# Altium integrated library Analog Devices Operational Amplifiers.IntLib: 2102 symbols (part 1 of 70)
Pins are listed as number, name and electrical type; pins without a type are passive.

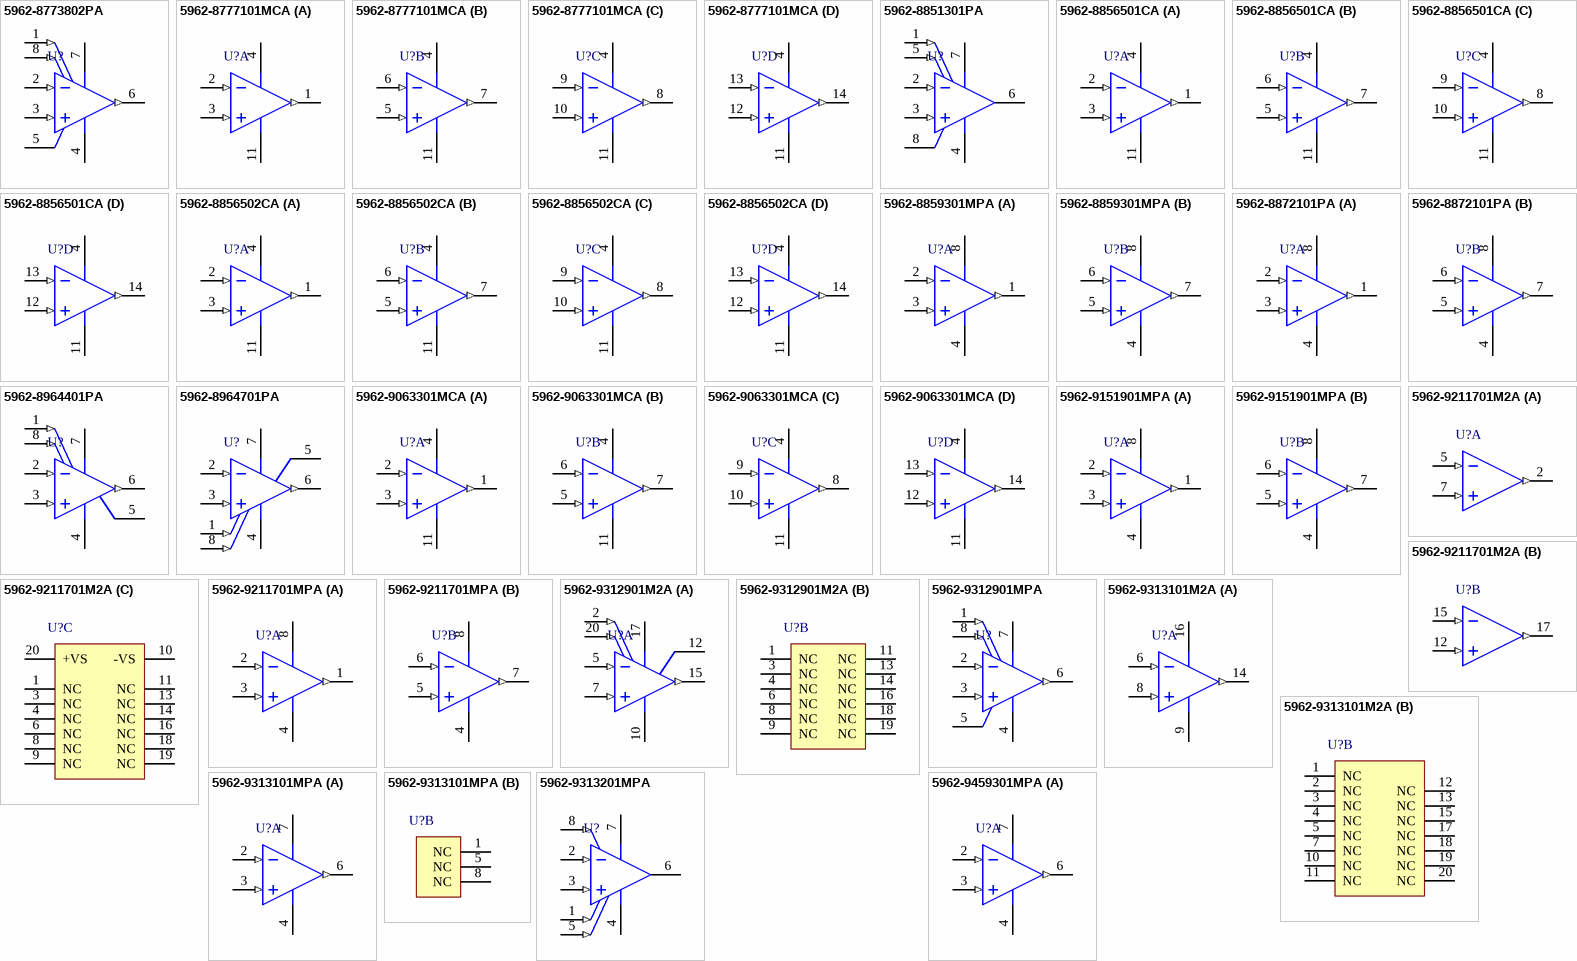
[diagram p0: symbols 5962-8773802PA to 5962-9459301MPA]

## 5962-8773802PA
designator U?
Single Channel Ultra High Gain Operational Amplifier, 600 KHz BW, 300 mV/us SR, Military, 8-pin DIP (Q-8), Tube; Generic Part Number: OP77; Manufacturer: Analog Devices; PartNumber: 5962-8773802PA; Amplifiers Per Package: 1; Input Bias Current: 1.2nA; Input Offset Voltage: 10uV; Iq/Amp: 2mA; Small Signal Bandwidth: 600KHz; V Span Max: 44V; V Span Min: 6V; DatasheetVersion: Rev. E; PackageReference: Q-8; PackageDescription: 8-Pin Ceramic Dual In-Line Package, Row spacing 7.62 mm, Pitch 2.54 mm; Supplier 1: Digi-Key; Supplier Part Number 1: 5962-8773802PA-ND; Packing: Tube; Slew Rate: 300mV/us; Mounting Technology: Through Hole; ComponentLink1Description: Manufacturer URL; ComponentLink1URL: http://www.analog.com/en/index.html; ComponentLink2Description: Datasheet; ComponentLink2URL: http://www.analog.com/static/imported-files/data_sheets/OP77.pdf; ComponentLink3Description: Package Specification; ComponentLink3URL: http://www.analog.com/static/imported-files/packages/3925655241313314758Q_8.pdf
footprint ADI-Q-8 (DIP, 8-Leads, Body 10.29x6.73mm, Pitch 2.54mm)
pins: 1 VOS TRIM (in), 2 -IN (in), 3 +IN (in), 4 V- (power), 5 NC, 6 OUT (out), 7 V+ (power), 8 VOS TRIM (in)

## 5962-8777101MCA
designator U?
Quad Channel Low Supply Current Operational Amplifier, 500 KHz BW, 150 mV/us SR, Industrial, 14-pin DIP (Q-14), Tube; Generic Part Number: OP400; Manufacturer: Analog Devices; PartNumber: 5962-8777101MCA; Amplifiers Per Package: 4; Input Bias Current: 750pA; Input Offset Voltage: 80uV; Iq/Amp: 725uA; Small Signal Bandwidth: 500KHz; V Span Max: 40V; V Span Min: 6V; DatasheetVersion: Rev. G; PackageReference: Q-14; PackageDescription: 14-Pin Ceramic Dual In-Line Package, Row spacing 7.62 mm, Pitch 2.54 mm; Supplier 1: Digi-Key; Supplier Part Number 1: 5962-8777101MCA-ND; Supplier 2: Newark; Supplier Part Number 2: 90T1010; Supplier 3: Newark; Supplier Part Number 3: 09B4667; Packing: Tube; Slew Rate: 150mV/us; Mounting Technology: Through Hole; ComponentLink1Description: Manufacturer URL; ComponentLink1URL: http://www.analog.com/en/index.html; ComponentLink2Description: Datasheet; ComponentLink2URL: http://www.analog.com/static/imported-files/data_sheets/OP400.pdf; ComponentLink3Description: Package Specification; ComponentLink3URL: http://www.analog.com/static/imported-files/packages/393665681442905251546090Q_14.pdf
footprint ADI-Q-14 (DIP, 14-Leads, Body 19.94x6.73mm, Pitch 2.54mm)
pins on every part: 4 +V (power), 11 -V (power)
part A pins: 1 OUT A (out), 2 -IN A (in), 3 +IN A (in)
part B pins: 5 +IN B (in), 6 -IN B (in), 7 OUT B (out)
part C pins: 8 OUT C (out), 9 -IN C (in), 10 +IN C (in)
part D pins: 12 +IN D (in), 13 -IN D (in), 14 OUT D (out)

## 5962-8851301PA
designator U?
Single Channel Fast Slew Rate Operational Amplifier, 10 MHz BW, 50 V/us SR, Industrial, 8-pin DIP (Q-8), Tube; Generic Part Number: OP42; Manufacturer: Analog Devices; PartNumber: 5962-8851301PA; Amplifiers Per Package: 1; Input Bias Current: 130pA; Input Offset Voltage: 1.5mV; Iq/Amp: 6.5mA; Slew Rate: 50V/us; Small Signal Bandwidth: 10MHz; V Span Max: 40V; V Span Min: 16V; DatasheetVersion: Rev. A; PackageReference: Q-8; PackageDescription: 8-Pin Ceramic Dual In-Line Package, Row spacing 7.62 mm, Pitch 2.54 mm; Supplier 1: Digi-Key; Supplier Part Number 1: 5962-8851301PA-ND; Packing: Tube; Mounting Technology: Through Hole; ComponentLink1Description: Manufacturer URL; ComponentLink1URL: http://www.analog.com/en/index.html; ComponentLink2Description: Datasheet; ComponentLink2URL: http://www.analog.com/static/imported-files/data_sheets/OP42.pdf; ComponentLink3Description: Package Specification; ComponentLink3URL: http://www.analog.com/static/imported-files/packages/3925655241313314758Q_8.pdf
footprint ADI-Q-8 (DIP, 8-Leads, Body 10.29x6.73mm, Pitch 2.54mm)
pins: 1 NULL (in), 2 -IN (in), 3 +IN (in), 4 -V (power), 5 NULL (in), 6 OUT (hiz), 7 +V (power), 8 NC

## 5962-8856501CA
designator U?
Quad Channel Low Offset Voltage Drift Operational Amplifier, 6 MHz BW, 2 V/us SR, Industrial, 14-pin DIP (Q-14), Tube; Generic Part Number: OP470; Manufacturer: Analog Devices; PartNumber: 5962-8856501CA; Amplifiers Per Package: 4; Input Bias Current: 25nA; Input Offset Voltage: 400uV; Iq/Amp: 2.75mA; Slew Rate: 2V/us; Small Signal Bandwidth: 6MHz; V Span Max: 36V; V Span Min: 9V; DatasheetVersion: Rev. B; PackageReference: Q-14; PackageDescription: 14-Pin Ceramic Dual In-Line Package, Row spacing 7.62 mm, Pitch 2.54 mm; Supplier 1: Digi-Key; Supplier Part Number 1: 5962-8856501CA-ND; Packing: Tube; Mounting Technology: Through Hole; ComponentLink1Description: Manufacturer URL; ComponentLink1URL: http://www.analog.com/en/index.html; ComponentLink2Description: Datasheet; ComponentLink2URL: http://www.analog.com/static/imported-files/data_sheets/OP470.pdf; ComponentLink3Description: Package Specification; ComponentLink3URL: http://www.analog.com/static/imported-files/packages/393665681442905251546090Q_14.pdf
footprint ADI-Q-14 (DIP, 14-Leads, Body 19.94x6.73mm, Pitch 2.54mm)
pins on every part: 4 +V (power), 11 -V (power)
part A pins: 1 OUT A (out), 2 -IN A (in), 3 +IN A (in)
part B pins: 5 +IN B (in), 6 -IN B (in), 7 OUT B (out)
part C pins: 8 OUT C (out), 9 -IN C (in), 10 +IN C (in)
part D pins: 12 +IN D (in), 13 -IN D (in), 14 OUT D (out)

## 5962-8856502CA
designator U?
Quad Channel Low Offset Voltage Drift Operational Amplifier, 6.5 MHz BW, 8 V/us SR, Military, 14-pin DIP (Q-14), Tube; Generic Part Number: OP471; Manufacturer: Analog Devices; PartNumber: 5962-8856502CA; Amplifiers Per Package: 4; Input Bias Current: 25nA; Input Offset Voltage: 1mV; Iq/Amp: 2.75mA; Slew Rate: 8V/us; Small Signal Bandwidth: 6.5MHz; V Span Max: 36V; V Span Min: 9V; DatasheetVersion: Rev. A; PackageReference: Q-14; PackageDescription: 14-Pin Ceramic Dual In-Line Package, Row spacing 7.62 mm, Pitch 2.54 mm; Supplier 1: Digi-Key; Supplier Part Number 1: 5962-8856502CA-ND; Packing: Tube; Mounting Technology: Through Hole; ComponentLink1Description: Manufacturer URL; ComponentLink1URL: http://www.analog.com/en/index.html; ComponentLink2Description: Datasheet; ComponentLink2URL: http://www.analog.com/static/imported-files/data_sheets/OP471.pdf; ComponentLink3Description: Package Specification; ComponentLink3URL: http://www.analog.com/static/imported-files/packages/393665681442905251546090Q_14.pdf
footprint ADI-Q-14 (DIP, 14-Leads, Body 19.94x6.73mm, Pitch 2.54mm)
pins on every part: 4 +V (power), 11 -V (power)
part A pins: 1 OUT A (out), 2 -IN A (in), 3 +IN A (in)
part B pins: 5 +IN B (in), 6 -IN B (in), 7 OUT B (out)
part C pins: 8 OUT C (out), 9 -IN C (in), 10 +IN C (in)
part D pins: 12 +IN D (in), 13 -IN D (in), 14 OUT D (out)

## 5962-8859301MPA
designator U?
Double Channel Low Supply Current Operational Amplifier, 500 KHz BW, 150 mV/us SR, Military, 8-pin DIP (Q-8), Tube; Generic Part Number: OP200; Manufacturer: Analog Devices; PartNumber: 5962-8859301MPA; Amplifiers Per Package: 2; Input Bias Current: 100pA; Input Offset Voltage: 80uV; Iq/Amp: 775uA; Small Signal Bandwidth: 500KHz; V Span Max: 40V; V Span Min: 6V; DatasheetVersion: Rev. E; PackageReference: Q-8; PackageDescription: 8-Pin Ceramic Dual In-Line Package, Row spacing 7.62 mm, Pitch 2.54 mm; Supplier 1: Digi-Key; Supplier Part Number 1: 5962-8859301MPA-ND; Packing: Tube; Slew Rate: 150mV/us; Mounting Technology: Through Hole; ComponentLink1Description: Manufacturer URL; ComponentLink1URL: http://www.analog.com/en/index.html; ComponentLink2Description: Datasheet; ComponentLink2URL: http://www.analog.com/static/imported-files/data_sheets/OP200.pdf; ComponentLink3Description: Package Specification; ComponentLink3URL: http://www.analog.com/static/imported-files/packages/3925655241313314758Q_8.pdf
footprint ADI-Q-8 (DIP, 8-Leads, Body 10.29x6.73mm, Pitch 2.54mm)
pins on every part: 4 -V (power), 8 +V (power)
part A pins: 1 OUT A (out), 2 -IN A (in), 3 +IN A (in)
part B pins: 5 +IN B (in), 6 -IN B (in), 7 OUT B (out)

## 5962-8872101PA
designator U?
Double Channel Very Low Noise Operational Amplifier, 5 MHz BW, 2.4 V/us SR, Military, 8-pin DIP (Q-8), Tube; Generic Part Number: OP270; Manufacturer: Analog Devices; PartNumber: 5962-8872101PA; Amplifiers Per Package: 2; Input Bias Current: 15nA; Input Offset Voltage: 50uV; Iq/Amp: 3.25mA; Small Signal Bandwidth: 5MHz; V Span Max: 36V; V Span Min: 9V; DatasheetVersion: Rev. E; PackageReference: Q-8; PackageDescription: 8-Pin Ceramic Dual In-Line Package, Row spacing 7.62 mm, Pitch 2.54 mm; Supplier 1: Digi-Key; Supplier Part Number 1: 5962-8872101PA-ND; Packing: Tube; Slew Rate: 2.4V/us; Mounting Technology: Through Hole; ComponentLink1Description: Manufacturer URL; ComponentLink1URL: http://www.analog.com/en/index.html; ComponentLink2Description: Datasheet; ComponentLink2URL: http://www.analog.com/static/imported-files/data_sheets/OP270.pdf; ComponentLink3Description: Package Specification; ComponentLink3URL: http://www.analog.com/static/imported-files/packages/3925655241313314758Q_8.pdf
footprint ADI-Q-8 (DIP, 8-Leads, Body 10.29x6.73mm, Pitch 2.54mm)
pins on every part: 4 -V (power), 8 +V (power)
part A pins: 1 OUT A (out), 2 -IN A (in), 3 +IN A (in)
part B pins: 5 +IN B (in), 6 -IN B (in), 7 OUT B (out)

## 5962-8964401PA
designator U?
Single Channel Wide Bandwidth Operational Amplifier, 60 MHz BW, 2 KV/us SR, Military, 8-pin DIP (Q-8), Tube; Generic Part Number: AD844; Manufacturer: Analog Devices; PartNumber: 5962-8964401PA; Amplifiers Per Package: 1; Input Bias Current: 150nA; Input Offset Voltage: 50uV; Iq/Amp: 6.5mA; Slew Rate: 2KV/us; Small Signal Bandwidth: 60MHz; V Span Max: 36V; V Span Min: 9V; DatasheetVersion: Rev. F; PackageReference: Q-8; PackageDescription: 8-Pin Ceramic Dual In-Line Package, Row spacing 7.62 mm, Pitch 2.54 mm; Supplier 1: Digi-Key; Supplier Part Number 1: 5962-8964401PA-ND; Packing: Tube; Mounting Technology: Through Hole; ComponentLink1Description: Manufacturer URL; ComponentLink1URL: http://www.analog.com/en/index.html; ComponentLink2Description: Datasheet; ComponentLink2URL: http://www.analog.com/static/imported-files/data_sheets/AD844.pdf; ComponentLink3Description: Package Specification; ComponentLink3URL: http://www.analog.com/static/imported-files/packages/3925655241313314758Q_8.pdf
footprint ADI-Q-8 (DIP, 8-Leads, Body 10.29x6.73mm, Pitch 2.54mm)
pins: 1 NULL (in), 2 -IN (in), 3 +IN (in), 4 -VS (power), 5 TZ, 6 OUT (out), 7 +VS (power), 8 NULL (in)

## 5962-8964701PA
designator U?
Single Channel Superior Performance, High Unity Gain Operational Amplifier, 50 MHz BW, 300 V/us SR, Military, 8-pin DIP (Q-8), Tube; Generic Part Number: AD847; Manufacturer: Analog Devices; PartNumber: 5962-8964701PA; Amplifiers Per Package: 1; Input Bias Current: 3.3uA; Input Offset Voltage: 500uV; Iq/Amp: 4.8mA; Small Signal Bandwidth: 50MHz; V Span Max: 36V; V Span Min: 9V; DatasheetVersion: Rev. F; PackageReference: Q-8; PackageDescription: 8-Pin Ceramic Dual In-Line Package, Row spacing 7.62 mm, Pitch 2.54 mm; Supplier 1: Digi-Key; Supplier Part Number 1: 5962-8964701PA-ND; Packing: Tube; Slew Rate: 300V/us; Mounting Technology: Through Hole; ComponentLink1Description: Manufacturer URL; ComponentLink1URL: http://www.analog.com/en/index.html; ComponentLink2Description: Datasheet; ComponentLink2URL: http://www.analog.com/static/imported-files/data_sheets/AD847.pdf; ComponentLink3Description: Package Specification; ComponentLink3URL: http://www.analog.com/static/imported-files/packages/3925655241313314758Q_8.pdf
footprint ADI-Q-8 (DIP, 8-Leads, Body 10.29x6.73mm, Pitch 2.54mm)
pins: 1 NULL (in), 2 -IN (in), 3 +IN (in), 4 -VS (power), 5 NC, 6 OUT (out), 7 +VS (power), 8 NULL (in)

## 5962-9063301MCA
designator U?
Quad Channel Operational Amplifier, 4 MHz BW, 20 V/us SR, Military, 14-pin DIP (Q-14), Tube; Generic Part Number: AD713; Manufacturer: Analog Devices; PartNumber: 5962-9063301MCA; Amplifiers Per Package: 4; Input Bias Current: 40pA; Input Offset Voltage: 300uV; Iq/Amp: 10mA; Slew Rate: 20V/us; Small Signal Bandwidth: 4MHz; V Span Max: 36V; V Span Min: 9V; DatasheetVersion: Rev. F; PackageReference: Q-14; PackageDescription: 14-Pin Ceramic Dual In-Line Package, Row spacing 7.62 mm, Pitch 2.54 mm; Supplier 1: Digi-Key; Supplier Part Number 1: 5962-9063301MCA-ND; Packing: Tube; Mounting Technology: Through Hole; ComponentLink1Description: Manufacturer URL; ComponentLink1URL: http://www.analog.com/en/index.html; ComponentLink2Description: Datasheet; ComponentLink2URL: http://www.analog.com/static/imported-files/data_sheets/AD713.pdf; ComponentLink3Description: Package Specification; ComponentLink3URL: http://www.analog.com/static/imported-files/packages/393665681442905251546090Q_14.pdf
footprint ADI-Q-14 (DIP, 14-Leads, Body 19.94x6.73mm, Pitch 2.54mm)
pins on every part: 4 +VS (power), 11 -VS (power)
part A pins: 1 OUT 1 (out), 2 -IN 1 (in), 3 +IN 1 (in)
part B pins: 5 +IN 2 (in), 6 -IN 2 (in), 7 OUT 2 (out)
part C pins: 8 OUT 3 (out), 9 -IN 3 (in), 10 +IN 3 (in)
part D pins: 12 +IN 4 (in), 13 -IN 4 (in), 14 OUT 4 (out)

## 5962-9151901MPA
designator U?
Double Channel Fast Slew Rate Operational Amplifier, 4.7 MHz BW, 22 V/us SR, Military, 8-pin DIP (Q-8), Tube; Generic Part Number: OP249; Manufacturer: Analog Devices; PartNumber: 5962-9151901MPA; Amplifiers Per Package: 2; Input Bias Current: 40pA; Input Offset Voltage: 400uV; Iq/Amp: 3.5mA; Slew Rate: 22V/us; Small Signal Bandwidth: 4.7MHz; V Span Max: 36V; V Span Min: 9V; DatasheetVersion: Rev. G; PackageReference: Q-8; PackageDescription: 8-Pin Ceramic Dual In-Line Package, Row spacing 7.62 mm, Pitch 2.54 mm; Supplier 1: Digi-Key; Supplier Part Number 1: 5962-9151901MPA-ND; Packing: Tube; Mounting Technology: Through Hole; ComponentLink1Description: Manufacturer URL; ComponentLink1URL: http://www.analog.com/en/index.html; ComponentLink2Description: Datasheet; ComponentLink2URL: http://www.analog.com/static/imported-files/data_sheets/OP249.pdf; ComponentLink3Description: Package Specification; ComponentLink3URL: http://www.analog.com/static/imported-files/packages/3925655241313314758Q_8.pdf
footprint ADI-Q-8 (DIP, 8-Leads, Body 10.29x6.73mm, Pitch 2.54mm)
pins on every part: 4 -V (power), 8 +V (power)
part A pins: 1 OUT A (out), 2 -IN A (in), 3 +IN A (in)
part B pins: 5 +IN B (in), 6 -IN B (in), 7 OUT B (out)

## 5962-9211701M2A
designator U?
Double Channel Low Power Operational Amplifier, 50 MHz BW, 300 V/us SR, Military, 20-pin LCC (E-20A), Tube; Generic Part Number: AD827; Manufacturer: Analog Devices; PartNumber: 5962-9211701M2A; Amplifiers Per Package: 2; Input Bias Current: 3.3uA; Input Offset Voltage: 500uV; Iq/Amp: 6.75mA; Small Signal Bandwidth: 50MHz; V Span Max: 36V; V Span Min: 9V; DatasheetVersion: Rev. C; PackageVersion: Rev. C; PackageReference: E-20A; PackageDescription: 20-Pin Terminal Ceramic Leadless Chip Carrier, Body 8.89 x 8.89 mm, Pitch 1.27 mm; Supplier 1: Digi-Key; Supplier Part Number 1: 5962-9211701M2A-ND; Packing: Tube; Slew Rate: 300V/us; Mounting Technology: Surface Mount; ComponentLink1Description: Manufacturer URL; ComponentLink1URL: http://www.analog.com/en/index.html; ComponentLink2Description: Datasheet; ComponentLink2URL: http://www.analog.com/static/imported-files/data_sheets/AD827.pdf; ComponentLink3Description: Package Specification; ComponentLink3URL: http://www.analog.com/static/imported-files/data_sheets/AD827.pdf
footprint ADI-E-20A_N (LCC, 20-Leads, Body 8.9x8.9mm, Pitch 1.27mm, IPC Medium Density)
footprint ADI-E-20A_L (LCC, 20-Leads, Body 8.9x8.9mm, Pitch 1.27mm, IPC High Density)
footprint ADI-E-20A_M (LCC, 20-Leads, Body 8.9x8.9mm, Pitch 1.27mm, IPC Low Density)
part A pins: 2 OUTPUT A (out), 5 -IN A (in), 7 +IN A (in)
part B pins: 12 +IN B (in), 15 -IN B (in), 17 OUTPUT B (out)
part C pins: 1 NC, 3 NC, 4 NC, 6 NC, 8 NC, 9 NC, 10 -VS (power), 11 NC, 13 NC, 14 NC, 16 NC, 18 NC, 19 NC, 20 +VS (power)

## 5962-9211701MPA
designator U?
Double Channel Low Power Operational Amplifier, 50 MHz BW, 300 V/us SR, Military, 8-pin DIP (Q-8), Tube; Generic Part Number: AD827; Manufacturer: Analog Devices; PartNumber: 5962-9211701MPA; Amplifiers Per Package: 2; Input Bias Current: 3.3uA; Input Offset Voltage: 500uV; Iq/Amp: 6.75mA; Small Signal Bandwidth: 50MHz; V Span Max: 36V; V Span Min: 9V; DatasheetVersion: Rev. C; PackageReference: Q-8; PackageDescription: 8-Pin Ceramic Dual In-Line Package, Row spacing 7.62 mm, Pitch 2.54 mm; Supplier 1: Digi-Key; Supplier Part Number 1: 5962-9211701MPA-ND; Packing: Tube; Slew Rate: 300V/us; Mounting Technology: Through Hole; ComponentLink1Description: Manufacturer URL; ComponentLink1URL: http://www.analog.com/en/index.html; ComponentLink2Description: Datasheet; ComponentLink2URL: http://www.analog.com/static/imported-files/data_sheets/AD827.pdf; ComponentLink3Description: Package Specification; ComponentLink3URL: http://www.analog.com/static/imported-files/packages/3925655241313314758Q_8.pdf
footprint ADI-Q-8 (DIP, 8-Leads, Body 10.29x6.73mm, Pitch 2.54mm)
pins on every part: 4 -V (power), 8 +V (power)
part A pins: 1 OUT 1 (out), 2 -IN 1 (in), 3 +IN 1 (in)
part B pins: 5 +IN 2 (in), 6 -IN 2 (in), 7 OUT 2 (out)

## 5962-9312901M2A
designator U?
Single Channel Low Noise Operational Amplifier, 120 MHz BW, 230 V/us SR, Military, 20-pin LCC (E-20-1), Tube; Generic Part Number: AD829; Manufacturer: Analog Devices; PartNumber: 5962-9312901M2A; Amplifiers Per Package: 1; Input Bias Current: 3.3uA; Input Offset Voltage: 200uV; Iq/Amp: 6.5mA; Small Signal Bandwidth: 120MHz; V Span Max: 36V; V Span Min: 9V; DatasheetVersion: Rev. I; PackageVersion: 022106-A; PackageReference: E-20-1; PackageDescription: 20-Terminal Ceramic Leadless Chip Carrier, Body 8.89 x 8.89 mm, Pitch 1.27 mm; Supplier 1: Digi-Key; Supplier Part Number 1: 5962-9312901M2A-ND; Packing: Tube; Slew Rate: 230V/us; Mounting Technology: Surface Mount; ComponentLink1Description: Manufacturer URL; ComponentLink1URL: http://www.analog.com/en/index.html; ComponentLink2Description: Datasheet; ComponentLink2URL: http://www.analog.com/static/imported-files/data_sheets/AD829.pdf; ComponentLink3Description: Package Specification; ComponentLink3URL: http://www.analog.com/static/imported-files/packages/PKG_PDF/LCC(E)/E_20_1.pdf
footprint ADI-E-20-1_N (LCC, 20-Leads, Body 8.9x8.9mm, Pitch 1.27mm, IPC Medium Density)
footprint ADI-E-20-1_L (LCC, 20-Leads, Body 8.9x8.9mm, Pitch 1.27mm, IPC High Density)
footprint ADI-E-20-1_M (LCC, 20-Leads, Body 8.9x8.9mm, Pitch 1.27mm, IPC Low Density)
part A pins: 2 OFFSET NULL (in), 5 -IN (in), 7 +IN (in), 10 -V (power), 12 CCOMP, 15 OUT (out), 17 +V (power), 20 OFFSET NULL (in)
part B pins: 1 NC, 3 NC, 4 NC, 6 NC, 8 NC, 9 NC, 11 NC, 13 NC, 14 NC, 16 NC, 18 NC, 19 NC

## 5962-9312901MPA
designator U?
Single Channel Low Noise Operational Amplifier, 120 MHz BW, 230 V/us SR, Military, 8-pin DIP (Q-8), Tube; Generic Part Number: AD829; Manufacturer: Analog Devices; PartNumber: 5962-9312901MPA; Amplifiers Per Package: 1; Input Bias Current: 3.3uA; Input Offset Voltage: 200uV; Iq/Amp: 6.5mA; Small Signal Bandwidth: 120MHz; V Span Max: 36V; V Span Min: 9V; DatasheetVersion: Rev. I; PackageReference: Q-8; PackageDescription: 8-Pin Ceramic Dual In-Line Package, Row spacing 7.62 mm, Pitch 2.54 mm; Supplier 1: Digi-Key; Supplier Part Number 1: 5962-9312901MPA-ND; Packing: Tube; Slew Rate: 230V/us; Mounting Technology: Through Hole; ComponentLink1Description: Manufacturer URL; ComponentLink1URL: http://www.analog.com/en/index.html; ComponentLink2Description: Datasheet; ComponentLink2URL: http://www.analog.com/static/imported-files/data_sheets/AD829.pdf; ComponentLink3Description: Package Specification; ComponentLink3URL: http://www.analog.com/static/imported-files/packages/3925655241313314758Q_8.pdf
footprint ADI-Q-8 (DIP, 8-Leads, Body 10.29x6.73mm, Pitch 2.54mm)
pins: 1 OFFSET NULL (in), 2 -IN (in), 3 +IN (in), 4 -VS (power), 5 CCOMP, 6 OUT (out), 7 +VS (power), 8 OFFSET NULL (in)

## 5962-9313101M2A
designator U?
Single Channel Low Distortion Operational Amplifier, 140 MHz BW, 2.5 KV/us SR, Military, 20-pin LCC (E-20A), Tube; Generic Part Number: AD811; Manufacturer: Analog Devices; PartNumber: 5962-9313101M2A; Amplifiers Per Package: 1; Input Bias Current: 2uA; Input Offset Voltage: 500uV; Iq/Amp: 16mA; Small Signal Bandwidth: 140MHz; V Span Max: 36V; V Span Min: 9V; DatasheetVersion: Rev. E; PackageVersion: Rev. C; PackageReference: E-20A; PackageDescription: 20-Pin Terminal Ceramic Leadless Chip Carrier, Body 8.89 x 8.89 mm, Pitch 1.27 mm; Supplier 1: Digi-Key; Supplier Part Number 1: 5962-9313101M2A-ND; Slew Rate: 2.5KV/us; Mounting Technology: Surface Mount; ComponentLink1Description: Manufacturer URL; ComponentLink1URL: http://www.analog.com/en/index.html; ComponentLink2Description: Datasheet; ComponentLink2URL: http://www.analog.com/static/imported-files/data_sheets/AD811.pdf; ComponentLink3Description: Package Specification; ComponentLink3URL: http://www.analog.com/static/imported-files/data_sheets/AD827.pdf
footprint ADI-E-20A_N (LCC, 20-Leads, Body 8.9x8.9mm, Pitch 1.27mm, IPC Medium Density)
footprint ADI-E-20A_L (LCC, 20-Leads, Body 8.9x8.9mm, Pitch 1.27mm, IPC High Density)
footprint ADI-E-20A_M (LCC, 20-Leads, Body 8.9x8.9mm, Pitch 1.27mm, IPC Low Density)
part A pins: 6 -IN (in), 8 +IN (in), 9 -VS (power), 14 OUT (out), 16 +VS (power)
part B pins: 1 NC, 2 NC, 3 NC, 4 NC, 5 NC, 7 NC, 10 NC, 11 NC, 12 NC, 13 NC, 15 NC, 17 NC, 18 NC, 19 NC, 20 NC

## 5962-9313101MPA
designator U?
Single Channel Low Distortion Operational Amplifier, 140 MHz BW, 2.5 KV/us SR, Military, 8-pin DIP (Q-8), Tube; Generic Part Number: AD811; Manufacturer: Analog Devices; PartNumber: 5962-9313101MPA; Amplifiers Per Package: 1; Input Bias Current: 2uA; Input Offset Voltage: 500uV; Iq/Amp: 16mA; Small Signal Bandwidth: 140MHz; V Span Max: 36V; V Span Min: 9V; DatasheetVersion: Rev. E; PackageReference: Q-8; PackageDescription: 8-Pin Ceramic Dual In-Line Package, Row spacing 7.62 mm, Pitch 2.54 mm; Supplier 1: Digi-Key; Supplier Part Number 1: 5962-9313101MPA-ND; Slew Rate: 2.5KV/us; Mounting Technology: Through Hole; ComponentLink1Description: Manufacturer URL; ComponentLink1URL: http://www.analog.com/en/index.html; ComponentLink2Description: Datasheet; ComponentLink2URL: http://www.analog.com/static/imported-files/data_sheets/AD811.pdf; ComponentLink3Description: Package Specification; ComponentLink3URL: http://www.analog.com/static/imported-files/packages/3925655241313314758Q_8.pdf
footprint ADI-Q-8 (DIP, 8-Leads, Body 10.29x6.73mm, Pitch 2.54mm)
part A pins: 2 -IN (in), 3 +IN (in), 4 -VS (power), 6 OUT (out), 7 +VS (power)
part B pins: 1 NC, 5 NC, 8 NC

## 5962-9313201MPA
designator U?
Single Channel Low Cost Operational Amplifier, 80 MHz BW, 1 kV/us SR, Military, 8-pin DIP (Q-8), Tube; Generic Part Number: AD810; Manufacturer: Analog Devices; PartNumber: 5962-9313201MPA; Amplifiers Per Package: 1; Input Bias Current: 2uA; Input Offset Voltage: 1.5mV; Iq/Amp: 8mA; Slew Rate: 1KV/us; Small Signal Bandwidth: 80MHz; V Span Max: 36V; V Span Min: 5V; DatasheetVersion: Rev. A; PackageReference: Q-8; PackageDescription: 8-Pin Ceramic Dual In-Line Package, Row spacing 7.62 mm, Pitch 2.54 mm; Supplier 1: Digi-Key; Supplier Part Number 1: 5962-9313201MPA-ND; Mounting Technology: Through Hole; ComponentLink1Description: Manufacturer URL; ComponentLink1URL: http://www.analog.com/en/index.html; ComponentLink2Description: Datasheet; ComponentLink2URL: http://www.analog.com/static/imported-files/data_sheets/AD810.pdf; ComponentLink3Description: Package Specification; ComponentLink3URL: http://www.analog.com/static/imported-files/packages/3925655241313314758Q_8.pdf
footprint ADI-Q-8 (DIP, 8-Leads, Body 10.29x6.73mm, Pitch 2.54mm)
pins: 1 OFFSET NULL (in), 2 -IN (in), 3 +IN (in), 4 -VS (power), 5 OFFSET NULL (in), 6 OUT (hiz), 7 +VS (power), 8 ~{DISABLE} (in)

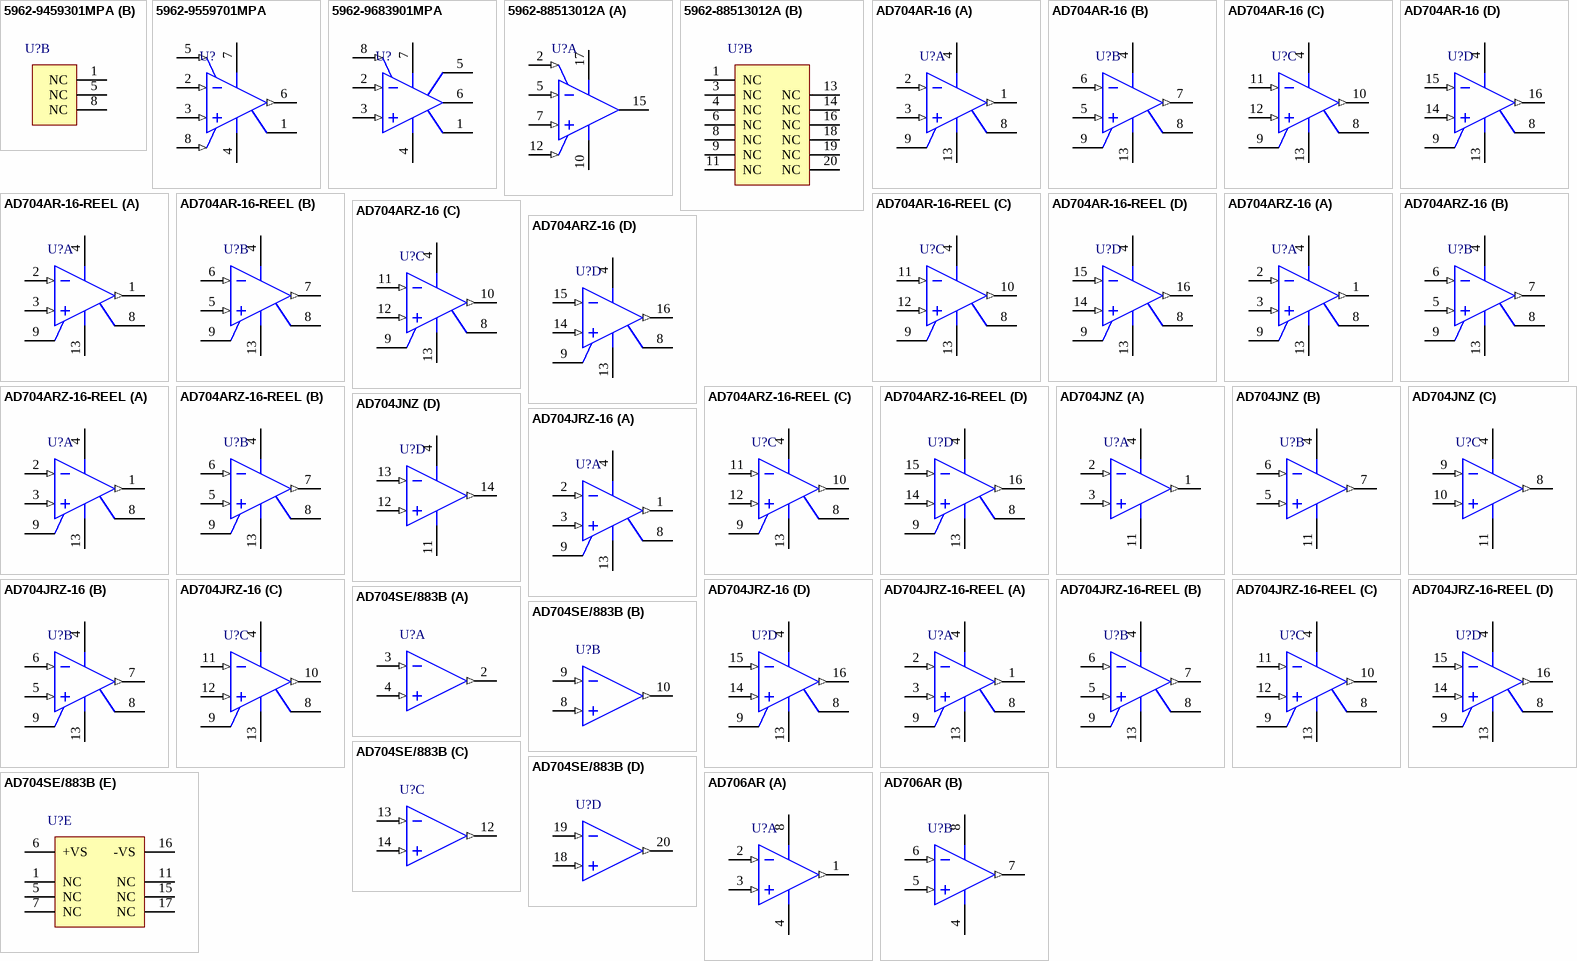
[diagram p1: symbols 5962-9459301MPA to AD706AR]

## 5962-9459301MPA
designator U?
Single Channel Low Power Operational Amplifier, 880 MHz BW, 1 KV/us SR, Military, 8-pin DIP (Q-8), Tube; Generic Part Number: AD8001; Manufacturer: Analog Devices; PartNumber: 5962-9459301MPA; Amplifiers Per Package: 1; Input Bias Current: 3uA; Input Offset Voltage: 2mV; Iq/Amp: 5mA; Slew Rate: 1KV/us; Small Signal Bandwidth: 880MHz; V Span Max: 12V; V Span Min: 6V; DatasheetVersion: Rev. D; PackageReference: Q-8; PackageDescription: 8-Pin Ceramic Dual In-Line Package, Row spacing 7.62 mm, Pitch 2.54 mm; Supplier 1: Digi-Key; Supplier Part Number 1: 5962-9459301MPA-ND; Mounting Technology: Through Hole; ComponentLink1Description: Manufacturer URL; ComponentLink1URL: http://www.analog.com/en/index.html; ComponentLink2Description: Datasheet; ComponentLink2URL: http://www.analog.com/static/imported-files/data_sheets/AD8001.pdf; ComponentLink3Description: Package Specification; ComponentLink3URL: http://www.analog.com/static/imported-files/packages/3925655241313314758Q_8.pdf
footprint ADI-Q-8 (DIP, 8-Leads, Body 10.29x6.73mm, Pitch 2.54mm)
part A pins: 2 -IN (in), 3 +IN (in), 4 -V (power), 6 OUT (out), 7 +V (power)
part B pins: 1 NC, 5 NC, 8 NC

## 5962-9559701MPA
designator U?
Single Channel Wide Bandwidth Operational Amplifier, 240 MHz BW, 1.2 KV/us SR, Military, 8-pin DIP (Q-8), Tube; Generic Part Number: AD8036; Manufacturer: Analog Devices; PartNumber: 5962-9559701MPA; Amplifiers Per Package: 1; Input Bias Current: 4uA; Input Offset Voltage: 2mV; Iq/Amp: 21.5mA; Small Signal Bandwidth: 240MHz; V Span Max: 12V; V Span Min: 6V; DatasheetVersion: Rev. B; PackageReference: Q-8; PackageDescription: 8-Pin Ceramic Dual In-Line Package, Row spacing 7.62 mm, Pitch 2.54 mm; Supplier 1: Digi-Key; Supplier Part Number 1: 5962-9559701MPA-ND; Slew Rate: 1.2KV/us; Mounting Technology: Through Hole; ComponentLink1Description: Manufacturer URL; ComponentLink1URL: http://www.analog.com/en/index.html; ComponentLink2Description: Datasheet; ComponentLink2URL: http://www.analog.com/static/imported-files/data_sheets/AD8036_8037.pdf; ComponentLink3Description: Package Specification; ComponentLink3URL: http://www.analog.com/static/imported-files/packages/3925655241313314758Q_8.pdf
footprint ADI-Q-8 (DIP, 8-Leads, Body 10.29x6.73mm, Pitch 2.54mm)
pins: 1 NC, 2 -IN (in), 3 +IN (in), 4 -VS (power), 5 VL (in), 6 OUT (out), 7 +VS (power), 8 VH (in)

## 5962-9683901MPA
designator U?
Single Channel Low Power Operational Amplifier, 170 MHz BW, 170 V/us SR, Military, 8-pin DIP (Q-8), Tube; Generic Part Number: AD8041; Manufacturer: Analog Devices; PartNumber: 5962-9683901MPA; Amplifiers Per Package: 1; Input Bias Current: 1.2uA; Input Offset Voltage: 2mV; Iq/Amp: 6.5mA; Small Signal Bandwidth: 170MHz; V Span Max: 12V; V Span Min: 3V; DatasheetVersion: Rev. B; PackageReference: Q-8; PackageDescription: 8-Pin Ceramic Dual In-Line Package, Row spacing 7.62 mm, Pitch 2.54 mm; Supplier 1: Digi-Key; Supplier Part Number 1: 5962-9683901MPA-ND; Slew Rate: 170V/us; Mounting Technology: Through Hole; ComponentLink1Description: Manufacturer URL; ComponentLink1URL: http://www.analog.com/en/index.html; ComponentLink2Description: Datasheet; ComponentLink2URL: http://www.analog.com/static/imported-files/data_sheets/AD8041.pdf; ComponentLink3Description: Package Specification; ComponentLink3URL: http://www.analog.com/static/imported-files/packages/3925655241313314758Q_8.pdf
footprint ADI-Q-8 (DIP, 8-Leads, Body 10.29x6.73mm, Pitch 2.54mm)
pins: 1 NC, 2 -INPUT (in), 3 +INPUT (in), 4 -VS (power), 5 NC, 6 OUTPUT (hiz), 7 +VS (power), 8 ~{DISABLE} (in)

## 5962-88513012A
designator U?
Single Channel Fast Slew Rate Operational Amplifier, 10 MHz BW, 50 V/us SR, Industrial, 20-pin LCC (E-20-1), Tube; Generic Part Number: OP42; Manufacturer: Analog Devices; PartNumber: 5962-88513012A; Amplifiers Per Package: 1; Input Bias Current: 130pA; Input Offset Voltage: 1.5mV; Iq/Amp: 6.5mA; Slew Rate: 50V/us; Small Signal Bandwidth: 10MHz; V Span Max: 40V; V Span Min: 16V; DatasheetVersion: Rev. A; PackageVersion: 022106-A; PackageReference: E-20-1; PackageDescription: 20-Terminal Ceramic Leadless Chip Carrier, Body 8.89 x 8.89 mm, Pitch 1.27 mm; Supplier 1: Digi-Key; Supplier Part Number 1: 5962-88513012A-ND; Packing: Tube; Mounting Technology: Surface Mount; ComponentLink1Description: Manufacturer URL; ComponentLink1URL: http://www.analog.com/en/index.html; ComponentLink2Description: Datasheet; ComponentLink2URL: http://www.analog.com/static/imported-files/data_sheets/OP42.pdf; ComponentLink3Description: Package Specification; ComponentLink3URL: http://www.analog.com/static/imported-files/packages/PKG_PDF/LCC(E)/E_20_1.pdf
footprint ADI-E-20-1_N (LCC, 20-Leads, Body 8.9x8.9mm, Pitch 1.27mm, IPC Medium Density)
footprint ADI-E-20-1_L (LCC, 20-Leads, Body 8.9x8.9mm, Pitch 1.27mm, IPC High Density)
footprint ADI-E-20-1_M (LCC, 20-Leads, Body 8.9x8.9mm, Pitch 1.27mm, IPC Low Density)
part A pins: 2 NULL (in), 5 -IN (in), 7 +IN (in), 10 -V (power), 12 NULL (in), 15 OUT (hiz), 17 +V (power)
part B pins: 1 NC, 3 NC, 4 NC, 6 NC, 8 NC, 9 NC, 11 NC, 13 NC, 14 NC, 16 NC, 18 NC, 19 NC, 20 NC

## AD704AR-16
designator U?
Quad Channel Low Power Operational Amplifier, 800 KHz BW, 150 mV/us SR, Industrial, 16-pin SOIC (RW-16), Tube; Generic Part Number: AD704; Manufacturer: Analog Devices; PartNumber: AD704AR-16; Amplifiers Per Package: 4; Input Bias Current: 100pA; Input Offset Voltage: 30uV; Iq/Amp: 600uA; Small Signal Bandwidth: 800KHz; V Span Max: 36V; V Span Min: 4V; DatasheetVersion: Rev. E; PackageVersion: 032707-B; PackageReference: RW-16; PackageDescription: 16-Pin Standard Small Outline Package, Body 10.3 x 7.5 mm, Pitch 1.27 mm; Supplier 1: Digi-Key; Supplier Part Number 1: AD704AR-16-ND; Supplier 2: Newark; Supplier Part Number 2: 66F5820; Packing: Tube; Slew Rate: 150mV/us; Mounting Technology: Surface Mount; Code_JEDEC: MS-013-AA; ComponentLink1Description: Manufacturer URL; ComponentLink1URL: http://www.analog.com/en/index.html; ComponentLink2Description: Datasheet; ComponentLink2URL: http://www.analog.com/static/imported-files/data_sheets/AD704.pdf; ComponentLink3Description: Package Specification; ComponentLink3URL: http://www.analog.com/static/imported-files/packages/PKG_PDF/SOIC_WIDE%20%28RW%29/RW_16.pdf
footprint ADI-RW-16_N (SOIC, 16-Leads, Body 10.3x7.5mm, Pitch 1.27mm,IPC Medium Density)
footprint ADI-RW-16_L (SOIC, 16-Leads, Body 10.3x7.5mm, Pitch 1.27mm, IPC High Density)
footprint ADI-RW-16_M (SOIC, 16-Leads, Body 10.3x7.5mm, Pitch 1.27mm, IPC Low Density)
pins on every part: 4 +VS (power), 8 NC, 9 NC, 13 -VS (power)
part A pins: 1 OUT 1 (out), 2 -IN 1 (in), 3 +IN 1 (in)
part B pins: 5 +IN 2 (in), 6 -IN 2 (in), 7 OUT 2 (out)
part C pins: 10 OUT 3 (out), 11 -IN 3 (in), 12 +IN 3 (in)
part D pins: 14 +IN 4 (in), 15 -IN 4 (in), 16 OUT 4 (out)

## AD704AR-16-REEL
designator U?
Quad Channel Low Power Operational Amplifier, 800 KHz BW, 150 mV/us SR, Industrial, 16-pin SOIC (RW-16), Reel; Generic Part Number: AD704; Manufacturer: Analog Devices; PartNumber: AD704AR-16-REEL; Amplifiers Per Package: 4; Input Bias Current: 100pA; Input Offset Voltage: 30uV; Iq/Amp: 600uA; Small Signal Bandwidth: 800KHz; V Span Max: 36V; V Span Min: 4V; DatasheetVersion: Rev. E; PackageVersion: 032707-B; PackageReference: RW-16; PackageDescription: 16-Pin Standard Small Outline Package, Body 10.3 x 7.5 mm, Pitch 1.27 mm; Supplier 1: Digi-Key; Supplier Part Number 1: AD704AR-16-REEL-ND; Packing: Reel; Slew Rate: 150mV/us; Mounting Technology: Surface Mount; Code_JEDEC: MS-013-AA; ComponentLink1Description: Manufacturer URL; ComponentLink1URL: http://www.analog.com/en/index.html; ComponentLink2Description: Datasheet; ComponentLink2URL: http://www.analog.com/static/imported-files/data_sheets/AD704.pdf; ComponentLink3Description: Package Specification; ComponentLink3URL: http://www.analog.com/static/imported-files/packages/PKG_PDF/SOIC_WIDE%20%28RW%29/RW_16.pdf
footprint ADI-RW-16_N (SOIC, 16-Leads, Body 10.3x7.5mm, Pitch 1.27mm,IPC Medium Density)
footprint ADI-RW-16_L (SOIC, 16-Leads, Body 10.3x7.5mm, Pitch 1.27mm, IPC High Density)
footprint ADI-RW-16_M (SOIC, 16-Leads, Body 10.3x7.5mm, Pitch 1.27mm, IPC Low Density)
pins on every part: 4 +VS (power), 8 NC, 9 NC, 13 -VS (power)
part A pins: 1 OUT 1 (out), 2 -IN 1 (in), 3 +IN 1 (in)
part B pins: 5 +IN 2 (in), 6 -IN 2 (in), 7 OUT 2 (out)
part C pins: 10 OUT 3 (out), 11 -IN 3 (in), 12 +IN 3 (in)
part D pins: 14 +IN 4 (in), 15 -IN 4 (in), 16 OUT 4 (out)

## AD704ARZ-16
designator U?
Quad Channel Low Power Operational Amplifier, 800 KHz BW, 150 mV/us SR, Industrial, 16-pin SOIC (RW-16), Tube; Generic Part Number: AD704; Manufacturer: Analog Devices; PartNumber: AD704ARZ-16; Amplifiers Per Package: 4; Input Bias Current: 100pA; Input Offset Voltage: 30uV; Iq/Amp: 600uA; Small Signal Bandwidth: 800KHz; V Span Max: 36V; V Span Min: 4V; DatasheetVersion: Rev. E; PackageVersion: 032707-B; PackageReference: RW-16; PackageDescription: 16-Pin Standard Small Outline Package, Body 10.3 x 7.5 mm, Pitch 1.27 mm; Supplier 1: Digi-Key; Supplier Part Number 1: AD704ARZ-16-ND; Supplier 2: Newark; Supplier Part Number 2: 59K4531; Packing: Tube; Slew Rate: 150mV/us; Mounting Technology: Surface Mount; Code_JEDEC: MS-013-AA; ComponentLink1Description: Manufacturer URL; ComponentLink1URL: http://www.analog.com/en/index.html; ComponentLink2Description: Datasheet; ComponentLink2URL: http://www.analog.com/static/imported-files/data_sheets/AD704.pdf; ComponentLink3Description: Package Specification; ComponentLink3URL: http://www.analog.com/static/imported-files/packages/PKG_PDF/SOIC_WIDE%20%28RW%29/RW_16.pdf
footprint ADI-RW-16_N (SOIC, 16-Leads, Body 10.3x7.5mm, Pitch 1.27mm,IPC Medium Density)
footprint ADI-RW-16_L (SOIC, 16-Leads, Body 10.3x7.5mm, Pitch 1.27mm, IPC High Density)
footprint ADI-RW-16_M (SOIC, 16-Leads, Body 10.3x7.5mm, Pitch 1.27mm, IPC Low Density)
pins on every part: 4 +VS (power), 8 NC, 9 NC, 13 -VS (power)
part A pins: 1 OUT 1 (out), 2 -IN 1 (in), 3 +IN 1 (in)
part B pins: 5 +IN 2 (in), 6 -IN 2 (in), 7 OUT 2 (out)
part C pins: 10 OUT 3 (out), 11 -IN 3 (in), 12 +IN 3 (in)
part D pins: 14 +IN 4 (in), 15 -IN 4 (in), 16 OUT 4 (out)

## AD704ARZ-16-REEL
designator U?
Quad Channel Low Power Operational Amplifier, 800 KHz BW, 150 mV/us SR, Industrial, 16-pin SOIC (RW-16), Reel; Generic Part Number: AD704; Manufacturer: Analog Devices; PartNumber: AD704ARZ-16-REEL; Amplifiers Per Package: 4; Input Bias Current: 100pA; Input Offset Voltage: 30uV; Iq/Amp: 600uA; Small Signal Bandwidth: 800KHz; V Span Max: 36V; V Span Min: 4V; DatasheetVersion: Rev. E; PackageVersion: 032707-B; PackageReference: RW-16; PackageDescription: 16-Pin Standard Small Outline Package, Body 10.3 x 7.5 mm, Pitch 1.27 mm; Supplier 1: Digi-Key; Supplier Part Number 1: AD704ARZ-16-REEL-ND; Packing: Reel; Slew Rate: 150mV/us; Mounting Technology: Surface Mount; Code_JEDEC: MS-013-AA; ComponentLink1Description: Manufacturer URL; ComponentLink1URL: http://www.analog.com/en/index.html; ComponentLink2Description: Datasheet; ComponentLink2URL: http://www.analog.com/static/imported-files/data_sheets/AD704.pdf; ComponentLink3Description: Package Specification; ComponentLink3URL: http://www.analog.com/static/imported-files/packages/PKG_PDF/SOIC_WIDE%20%28RW%29/RW_16.pdf
footprint ADI-RW-16_N (SOIC, 16-Leads, Body 10.3x7.5mm, Pitch 1.27mm,IPC Medium Density)
footprint ADI-RW-16_L (SOIC, 16-Leads, Body 10.3x7.5mm, Pitch 1.27mm, IPC High Density)
footprint ADI-RW-16_M (SOIC, 16-Leads, Body 10.3x7.5mm, Pitch 1.27mm, IPC Low Density)
pins on every part: 4 +VS (power), 8 NC, 9 NC, 13 -VS (power)
part A pins: 1 OUT 1 (out), 2 -IN 1 (in), 3 +IN 1 (in)
part B pins: 5 +IN 2 (in), 6 -IN 2 (in), 7 OUT 2 (out)
part C pins: 10 OUT 3 (out), 11 -IN 3 (in), 12 +IN 3 (in)
part D pins: 14 +IN 4 (in), 15 -IN 4 (in), 16 OUT 4 (out)

## AD704JNZ
designator U?
Quad Channel Low Power Operational Amplifier, 800 KHz BW, 150 mV/us SR, Commercial, 14-pin DIP (N-14), Tube; Generic Part Number: AD704; Manufacturer: Analog Devices; PartNumber: AD704JNZ; Amplifiers Per Package: 4; Input Bias Current: 100pA; Input Offset Voltage: 30uV; Iq/Amp: 600uA; Small Signal Bandwidth: 800KHz; V Span Max: 36V; V Span Min: 4V; DatasheetVersion: Rev. E; PackageVersion: 070606-A; PackageReference: N-14; PackageDescription: 14-Pin Plastic Dual In-Line Package, Row spacing 7.62 mm, Pitch 2.54 mm; Supplier 1: Digi-Key; Supplier Part Number 1: AD704JNZ-ND; Supplier 2: Farnell; Supplier Part Number 2: 1438357; Supplier 3: Newark; Supplier Part Number 3: 15P0765; Supplier 4: Newark; Supplier Part Number 4: 59K4533; Packing: Tube; Slew Rate: 150mV/us; Mounting Technology: Through Hole; Code_JEDEC: MS-001; ComponentLink1Description: Manufacturer URL; ComponentLink1URL: http://www.analog.com/en/index.html; ComponentLink2Description: Datasheet; ComponentLink2URL: http://www.analog.com/static/imported-files/data_sheets/AD704.pdf; ComponentLink3Description: Package Specification; ComponentLink3URL: http://www.analog.com/static/imported-files/packages/N_14.pdf
footprint ADI-N-14 (DIP, 14-Leads, Body 19.18x6.605mm, Pitch 2.54mm)
pins on every part: 4 +VS (power), 11 -VS (power)
part A pins: 1 OUT (out), 2 -IN (in), 3 +IN (in)
part B pins: 5 +IN (in), 6 -IN (in), 7 OUT (out)
part C pins: 8 OUT (out), 9 -IN (in), 10 +IN (in)
part D pins: 12 +IN (in), 13 -IN (in), 14 OUT (out)

## AD704JRZ-16
designator U?
Quad Channel Low Power Operational Amplifier, 800 KHz BW, 150 mV/us SR, Commercial, 16-pin SOIC (RW-16), Tube; Generic Part Number: AD704; Manufacturer: Analog Devices; PartNumber: AD704JRZ-16; Amplifiers Per Package: 4; Input Bias Current: 100pA; Input Offset Voltage: 30uV; Iq/Amp: 600uA; Small Signal Bandwidth: 800KHz; V Span Max: 36V; V Span Min: 4V; DatasheetVersion: Rev. E; PackageVersion: 032707-B; PackageReference: RW-16; PackageDescription: 16-Pin Standard Small Outline Package, Body 10.3 x 7.5 mm, Pitch 1.27 mm; Supplier 1: Digi-Key; Supplier Part Number 1: AD704JRZ-16-ND; Supplier 2: Newark; Supplier Part Number 2: 59K4534; Packing: Tube; Slew Rate: 150mV/us; Mounting Technology: Surface Mount; Code_JEDEC: MS-013-AA; ComponentLink1Description: Manufacturer URL; ComponentLink1URL: http://www.analog.com/en/index.html; ComponentLink2Description: Datasheet; ComponentLink2URL: http://www.analog.com/static/imported-files/data_sheets/AD704.pdf; ComponentLink3Description: Package Specification; ComponentLink3URL: http://www.analog.com/static/imported-files/packages/PKG_PDF/SOIC_WIDE%20%28RW%29/RW_16.pdf
footprint ADI-RW-16_N (SOIC, 16-Leads, Body 10.3x7.5mm, Pitch 1.27mm,IPC Medium Density)
footprint ADI-RW-16_L (SOIC, 16-Leads, Body 10.3x7.5mm, Pitch 1.27mm, IPC High Density)
footprint ADI-RW-16_M (SOIC, 16-Leads, Body 10.3x7.5mm, Pitch 1.27mm, IPC Low Density)
pins on every part: 4 +VS (power), 8 NC, 9 NC, 13 -VS (power)
part A pins: 1 OUT 1 (out), 2 -IN 1 (in), 3 +IN 1 (in)
part B pins: 5 +IN 2 (in), 6 -IN 2 (in), 7 OUT 2 (out)
part C pins: 10 OUT 3 (out), 11 -IN 3 (in), 12 +IN 3 (in)
part D pins: 14 +IN 4 (in), 15 -IN 4 (in), 16 OUT 4 (out)

## AD704JRZ-16-REEL
designator U?
Quad Channel Low Power Operational Amplifier, 800 KHz BW, 150 mV/us SR, Commercial, 16-pin SOIC (RW-16), Reel; Generic Part Number: AD704; Manufacturer: Analog Devices; PartNumber: AD704JRZ-16-REEL; Amplifiers Per Package: 4; Input Bias Current: 100pA; Input Offset Voltage: 30uV; Iq/Amp: 600uA; Small Signal Bandwidth: 800KHz; V Span Max: 36V; V Span Min: 4V; DatasheetVersion: Rev. E; PackageVersion: 032707-B; PackageReference: RW-16; PackageDescription: 16-Pin Standard Small Outline Package, Body 10.3 x 7.5 mm, Pitch 1.27 mm; Supplier 1: Digi-Key; Supplier Part Number 1: AD704JRZ-16-REELTR-ND; Supplier 2: Digi-Key; Supplier Part Number 2: AD704JRZ-16-REELCT-ND; Supplier 3: Digi-Key; Supplier Part Number 3: AD704JRZ-16-REELDKR-ND; Packing: Reel; Slew Rate: 150mV/us; Mounting Technology: Surface Mount; Code_JEDEC: MS-013-AA; ComponentLink1Description: Manufacturer URL; ComponentLink1URL: http://www.analog.com/en/index.html; ComponentLink2Description: Datasheet; ComponentLink2URL: http://www.analog.com/static/imported-files/data_sheets/AD704.pdf; ComponentLink3Description: Package Specification; ComponentLink3URL: http://www.analog.com/static/imported-files/packages/PKG_PDF/SOIC_WIDE%20%28RW%29/RW_16.pdf
footprint ADI-RW-16_N (SOIC, 16-Leads, Body 10.3x7.5mm, Pitch 1.27mm,IPC Medium Density)
footprint ADI-RW-16_L (SOIC, 16-Leads, Body 10.3x7.5mm, Pitch 1.27mm, IPC High Density)
footprint ADI-RW-16_M (SOIC, 16-Leads, Body 10.3x7.5mm, Pitch 1.27mm, IPC Low Density)
pins on every part: 4 +VS (power), 8 NC, 9 NC, 13 -VS (power)
part A pins: 1 OUT 1 (out), 2 -IN 1 (in), 3 +IN 1 (in)
part B pins: 5 +IN 2 (in), 6 -IN 2 (in), 7 OUT 2 (out)
part C pins: 10 OUT 3 (out), 11 -IN 3 (in), 12 +IN 3 (in)
part D pins: 14 +IN 4 (in), 15 -IN 4 (in), 16 OUT 4 (out)

## AD704SE/883B
designator U?
Quad Channel Low Power Operational Amplifier, 800 KHz BW, 150 mV/us SR, Military, 20-pin LCC (E-20-1), Tube; Generic Part Number: AD704; Manufacturer: Analog Devices; PartNumber: AD704SE/883B; Amplifiers Per Package: 4; Input Bias Current: 100pA; Input Offset Voltage: 30uV; Iq/Amp: 600uA; Small Signal Bandwidth: 800KHz; V Span Max: 36V; V Span Min: 4V; DatasheetVersion: Rev. E; PackageVersion: 022106-A; PackageReference: E-20-1; PackageDescription: 20-Terminal Ceramic Leadless Chip Carrier, Body 8.89 x 8.89 mm, Pitch 1.27 mm; Supplier 1: Digi-Key; Supplier Part Number 1: AD704SE/883B-ND; Packing: Tube; Slew Rate: 150mV/us; Mounting Technology: Surface Mount; ComponentLink1Description: Manufacturer URL; ComponentLink1URL: http://www.analog.com/en/index.html; ComponentLink2Description: Datasheet; ComponentLink2URL: http://www.analog.com/static/imported-files/data_sheets/AD704.pdf; ComponentLink3Description: Package Specification; ComponentLink3URL: http://www.analog.com/static/imported-files/packages/PKG_PDF/LCC(E)/E_20_1.pdf
footprint ADI-E-20-1_N (LCC, 20-Leads, Body 8.9x8.9mm, Pitch 1.27mm, IPC Medium Density)
footprint ADI-E-20-1_L (LCC, 20-Leads, Body 8.9x8.9mm, Pitch 1.27mm, IPC High Density)
footprint ADI-E-20-1_M (LCC, 20-Leads, Body 8.9x8.9mm, Pitch 1.27mm, IPC Low Density)
part A pins: 2 OUT 1 (out), 3 -IN 1 (in), 4 +IN 1 (in)
part B pins: 8 +IN 2 (in), 9 -IN 2 (in), 10 OUT 2 (out)
part C pins: 12 OUT 3 (out), 13 -IN 3 (in), 14 +IN 3 (in)
part D pins: 18 +IN 4 (in), 19 -IN 4 (in), 20 OUT 4 (out)
part E pins: 1 NC, 5 NC, 6 +VS (power), 7 NC, 11 NC, 15 NC, 16 -VS (power), 17 NC

## AD706AR
designator U?
Double Channel High DC Precision Operational Amplifier, 800 KHz BW, 150 mV/us SR, Industrial, 8-pin SOIC (R-8), Tube; Generic Part Number: AD706; Manufacturer: Analog Devices; PartNumber: AD706AR; Amplifiers Per Package: 2; Input Bias Current: 50pA; Input Offset Voltage: 30uV; Iq/Amp: 600uA; Small Signal Bandwidth: 800KHz; V Span Max: 36V; V Span Min: 4V; DatasheetVersion: Rev. E; PackageVersion: 060506-A; PackageReference: R-8; PackageDescription: 8-Pin Standard Small Outline Package, Body 3.9 x 4.9 mm, Pitch 1.27 mm; Supplier 1: Digi-Key; Supplier Part Number 1: AD706AR-ND; Packing: Tube; Slew Rate: 150mV/us; Mounting Technology: Surface Mount; Code_JEDEC: MS-012-AA; ComponentLink1Description: Manufacturer URL; ComponentLink1URL: http://www.analog.com/en/index.html; ComponentLink2Description: Datasheet; ComponentLink2URL: http://www.analog.com/static/imported-files/data_sheets/AD706.pdf; ComponentLink3Description: Package Specification; ComponentLink3URL: http://www.analog.com/static/imported-files/packages/PKG_PDF/SOIC_Narrow%20(R)/R_8.pdf
footprint ADI-R-8_N (SOIC, 8-Leads, Body 4.9x3.9mm, Pitch 1.27mm, IPC Medium Density)
footprint ADI-R-8_L (SOIC, 8-Leads, Body 4.9x3.9mm, Pitch 1.27mm, IPC High Density)
footprint ADI-R-8_M (SOIC, 8-Leads, Body 4.9x3.9mm, Pitch 1.27mm, IPC Low Density)
pins on every part: 4 -V (power), 8 +V (power)
part A pins: 1 OUT (out), 2 -IN (in), 3 +IN (in)
part B pins: 5 +IN (in), 6 -IN (in), 7 OUT (out)

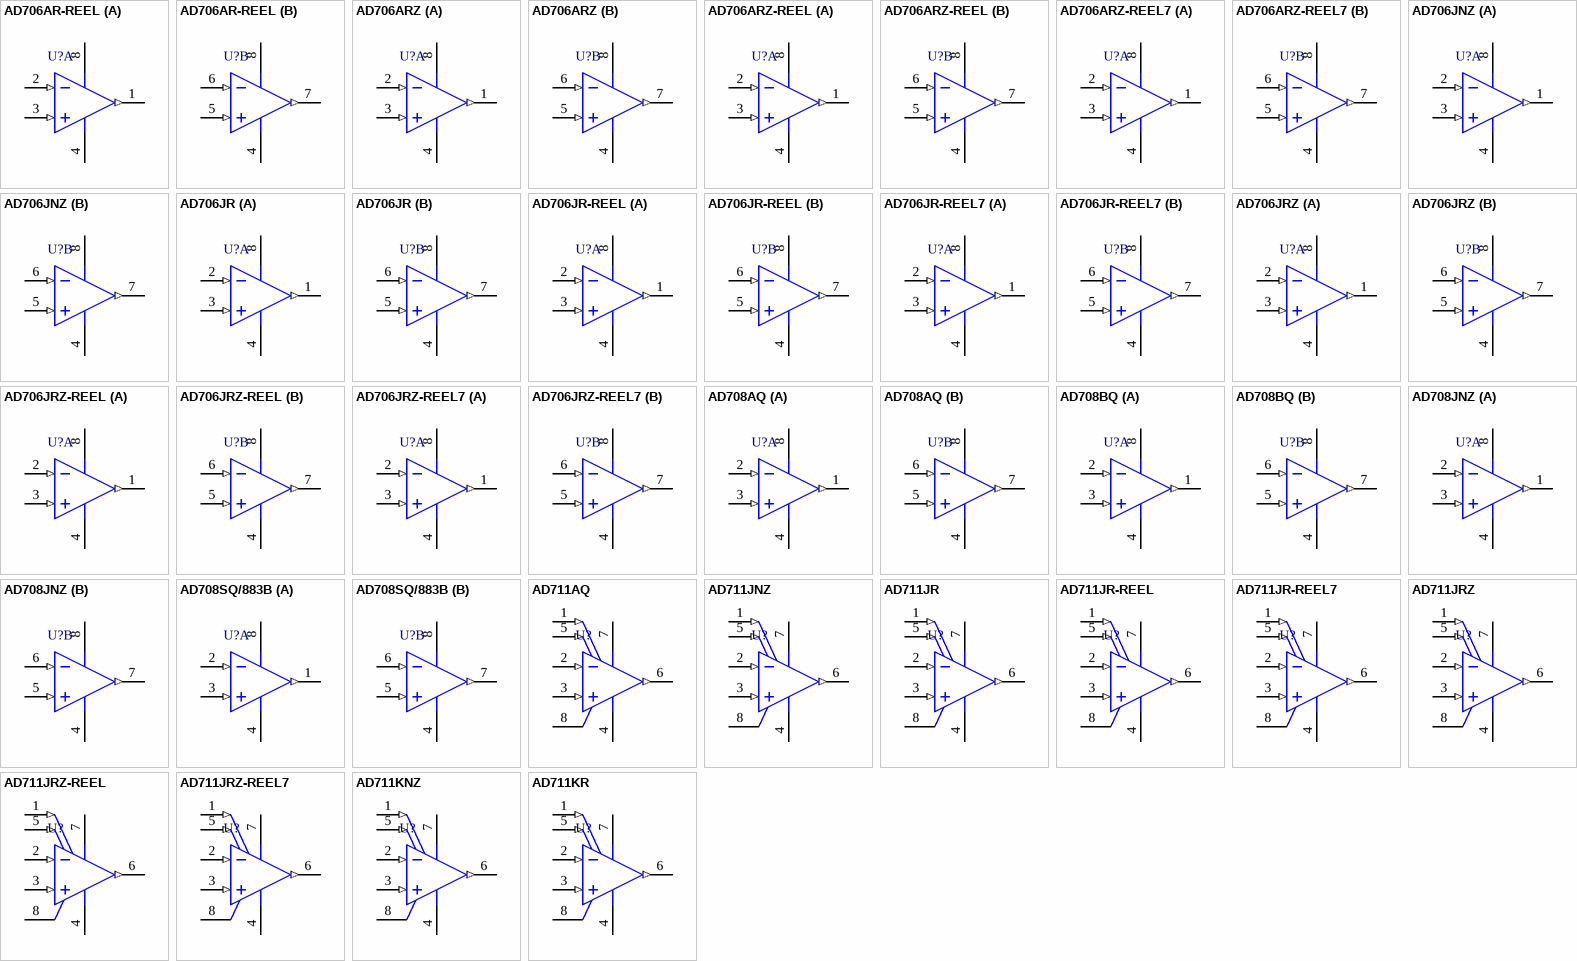
[diagram p2: symbols AD706AR-REEL to AD711KR]

## AD706AR-REEL
designator U?
Double Channel High DC Precision Operational Amplifier, 800 KHz BW, 150 mV/us SR, Industrial, 8-pin SOIC (R-8), Reel; Generic Part Number: AD706; Manufacturer: Analog Devices; PartNumber: AD706AR-REEL; Amplifiers Per Package: 2; Input Bias Current: 50pA; Input Offset Voltage: 30uV; Iq/Amp: 600uA; Small Signal Bandwidth: 800KHz; V Span Max: 36V; V Span Min: 4V; DatasheetVersion: Rev. E; PackageVersion: 060506-A; PackageReference: R-8; PackageDescription: 8-Pin Standard Small Outline Package, Body 3.9 x 4.9 mm, Pitch 1.27 mm; Supplier 1: Digi-Key; Supplier Part Number 1: AD706AR-REEL-ND; Supplier 2: Newark; Supplier Part Number 2: 09B5533; Packing: Reel; Slew Rate: 150mV/us; Mounting Technology: Surface Mount; Code_JEDEC: MS-012-AA; ComponentLink1Description: Manufacturer URL; ComponentLink1URL: http://www.analog.com/en/index.html; ComponentLink2Description: Datasheet; ComponentLink2URL: http://www.analog.com/static/imported-files/data_sheets/AD706.pdf; ComponentLink3Description: Package Specification; ComponentLink3URL: http://www.analog.com/static/imported-files/packages/PKG_PDF/SOIC_Narrow%20(R)/R_8.pdf
footprint ADI-R-8_N (SOIC, 8-Leads, Body 4.9x3.9mm, Pitch 1.27mm, IPC Medium Density)
footprint ADI-R-8_L (SOIC, 8-Leads, Body 4.9x3.9mm, Pitch 1.27mm, IPC High Density)
footprint ADI-R-8_M (SOIC, 8-Leads, Body 4.9x3.9mm, Pitch 1.27mm, IPC Low Density)
pins on every part: 4 -V (power), 8 +V (power)
part A pins: 1 OUT (out), 2 -IN (in), 3 +IN (in)
part B pins: 5 +IN (in), 6 -IN (in), 7 OUT (out)

## AD706ARZ
designator U?
Double Channel High DC Precision Operational Amplifier, 800 KHz BW, 150 mV/us SR, Industrial, 8-pin SOIC (R-8), Tube; Generic Part Number: AD706; Manufacturer: Analog Devices; PartNumber: AD706ARZ; Amplifiers Per Package: 2; Input Bias Current: 50pA; Input Offset Voltage: 30uV; Iq/Amp: 600uA; Small Signal Bandwidth: 800KHz; V Span Max: 36V; V Span Min: 4V; DatasheetVersion: Rev. E; PackageVersion: 060506-A; PackageReference: R-8; PackageDescription: 8-Pin Standard Small Outline Package, Body 3.9 x 4.9 mm, Pitch 1.27 mm; Supplier 1: Digi-Key; Supplier Part Number 1: AD706ARZ-ND; Supplier 2: Farnell; Supplier Part Number 2: 9426230; Packing: Tube; Slew Rate: 150mV/us; Mounting Technology: Surface Mount; Code_JEDEC: MS-012-AA; ComponentLink1Description: Manufacturer URL; ComponentLink1URL: http://www.analog.com/en/index.html; ComponentLink2Description: Datasheet; ComponentLink2URL: http://www.analog.com/static/imported-files/data_sheets/AD706.pdf; ComponentLink3Description: Package Specification; ComponentLink3URL: http://www.analog.com/static/imported-files/packages/PKG_PDF/SOIC_Narrow%20(R)/R_8.pdf
footprint ADI-R-8_N (SOIC, 8-Leads, Body 4.9x3.9mm, Pitch 1.27mm, IPC Medium Density)
footprint ADI-R-8_L (SOIC, 8-Leads, Body 4.9x3.9mm, Pitch 1.27mm, IPC High Density)
footprint ADI-R-8_M (SOIC, 8-Leads, Body 4.9x3.9mm, Pitch 1.27mm, IPC Low Density)
pins on every part: 4 -V (power), 8 +V (power)
part A pins: 1 OUT (out), 2 -IN (in), 3 +IN (in)
part B pins: 5 +IN (in), 6 -IN (in), 7 OUT (out)

## AD706ARZ-REEL
designator U?
Double Channel High DC Precision Operational Amplifier, 800 KHz BW, 150 mV/us SR, Industrial, 8-pin SOIC (R-8), Reel; Generic Part Number: AD706; Manufacturer: Analog Devices; PartNumber: AD706ARZ-REEL; Amplifiers Per Package: 2; Input Bias Current: 50pA; Input Offset Voltage: 30uV; Iq/Amp: 600uA; Small Signal Bandwidth: 800KHz; V Span Max: 36V; V Span Min: 4V; DatasheetVersion: Rev. E; PackageVersion: 060506-A; PackageReference: R-8; PackageDescription: 8-Pin Standard Small Outline Package, Body 3.9 x 4.9 mm, Pitch 1.27 mm; Supplier 1: Digi-Key; Supplier Part Number 1: AD706ARZ-REEL-ND; Packing: Reel; Slew Rate: 150mV/us; Mounting Technology: Surface Mount; Code_JEDEC: MS-012-AA; ComponentLink1Description: Manufacturer URL; ComponentLink1URL: http://www.analog.com/en/index.html; ComponentLink2Description: Datasheet; ComponentLink2URL: http://www.analog.com/static/imported-files/data_sheets/AD706.pdf; ComponentLink3Description: Package Specification; ComponentLink3URL: http://www.analog.com/static/imported-files/packages/PKG_PDF/SOIC_Narrow%20(R)/R_8.pdf
footprint ADI-R-8_N (SOIC, 8-Leads, Body 4.9x3.9mm, Pitch 1.27mm, IPC Medium Density)
footprint ADI-R-8_L (SOIC, 8-Leads, Body 4.9x3.9mm, Pitch 1.27mm, IPC High Density)
footprint ADI-R-8_M (SOIC, 8-Leads, Body 4.9x3.9mm, Pitch 1.27mm, IPC Low Density)
pins on every part: 4 -V (power), 8 +V (power)
part A pins: 1 OUT (out), 2 -IN (in), 3 +IN (in)
part B pins: 5 +IN (in), 6 -IN (in), 7 OUT (out)